# Altium footprint library 400250.PcbLib: 30 footprints (part 2 of 2)
Each footprint in its own frame and in the unit in brackets; x right, y up, seen from the top. Pads: shape width x height; smd on the part's side, far side on the other; paste and mask are expansions set on the pad; w line width, h text height; cw(c..) or ccw(c..) is an arc to the next point about the centre after c.
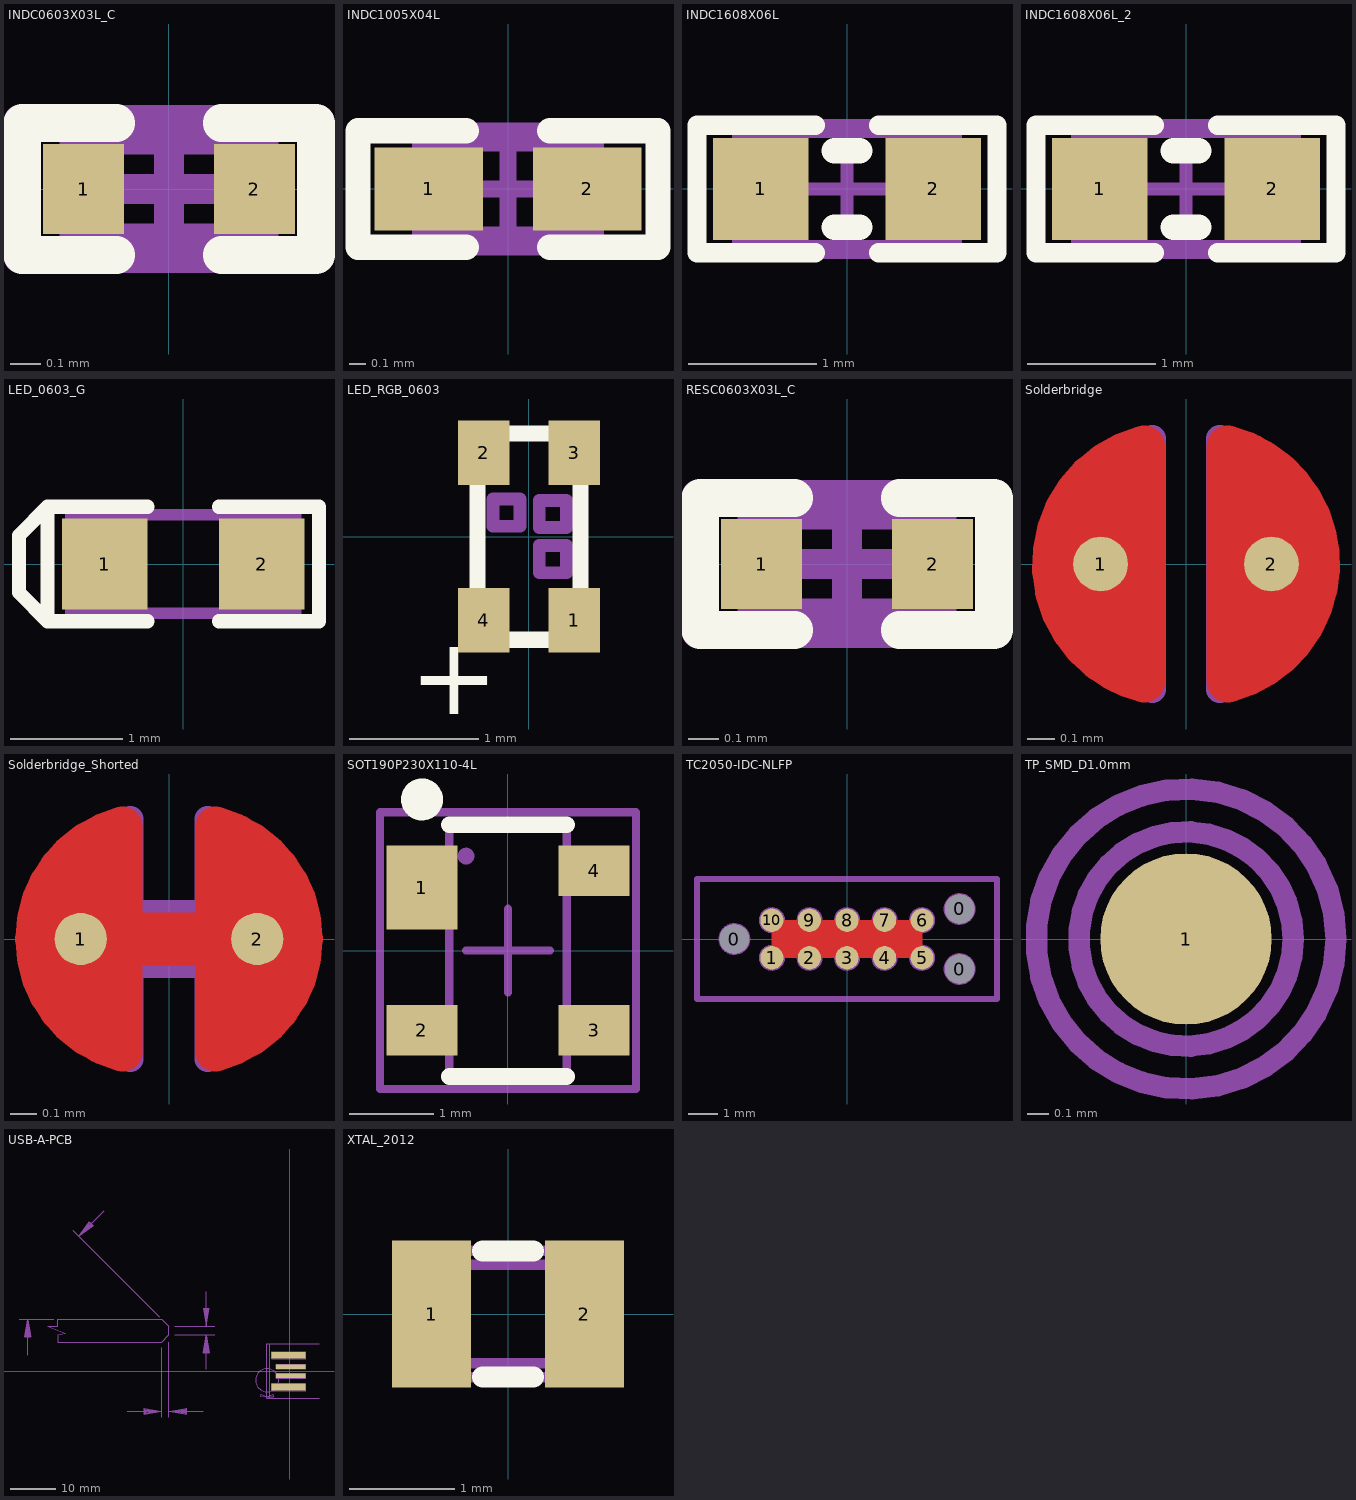
[diagram p1: the footprints below, top view; thin cyan lines are the x and y axes]

## INDC0603X03L_C [mm]
pads (2):
  rect 0.27x0.3 smd: 1(-0.285,0) 2(0.285,0)
Top Overlay:
  lines w0.125: -0.175,-0.22 -0.49,-0.22 -0.49,0.22 -0.175,0.22 ; 0.175,-0.22 0.49,-0.22 0.49,0.22 0.175,0.22
Mechanical 7:
  lines w0.1: -0.315,-0.165 -0.315,0.165 0.315,0.165 0.315,-0.165 -0.315,-0.165
  text ".Designator" at -0.457,0.152 h0.3
Mechanical 15:
  lines w0.1: -0.165,0 0.165,0 ; 0,-0.165 0,0.165 ; -0.5,-0.23 -0.5,0.23 0.5,0.23 0.5,-0.23 -0.5,-0.23
3D body "User Library-smt_inductor-0201.step": height 0.26, standoff -0.01, extent -0.31,-0.16 0.31,0.16

## INDC1005X04L [mm]
pads (2):
  rect 0.65x0.5 smd: 1(-0.475,0) 2(0.475,0)
Top Overlay:
  lines w0.152: -0.25,-0.35 -0.9,-0.35 -0.9,0.35 -0.25,0.35 ; 0.25,-0.35 0.9,-0.35 0.9,0.35 0.25,0.35
Mechanical 7:
  lines w0.1: -0.525,-0.275 0.525,-0.275 0.525,0.275 -0.525,0.275 -0.525,-0.275
  text ".Designator" at -0.229,-0.142 h0.3
Mechanical 15:
  lines w0.1: -0.275,0 0.275,0 ; 0,-0.275 0,0.275 ; -0.9,-0.35 0.9,-0.35 0.9,0.35 -0.9,0.35 -0.9,-0.35
3D body "User Library-Chip Inductor 0402.step": height 0.5, standoff 0, extent -0.5,-0.3 0.5,0.3

## INDC1608X06L [mm]
pads (2):
  rect 0.75x0.8 smd: 1(-0.675,0) 2(0.675,0)
Top Overlay:
  lines w0.152: -0.25,-0.5 -1.175,-0.5 -1.175,0.5 -0.25,0.5 ; 0.25,-0.5 1.175,-0.5 1.175,0.5 0.25,0.5
  lines w0.2: -0.1,-0.3 0.1,-0.3 ; -0.1,0.3 0.1,0.3
Mechanical 7:
  lines w0.1: -0.85,-0.45 -0.85,0.45 0.85,0.45 0.85,-0.45 -0.85,-0.45
  text ".Designator" at -0.214,-0.152 h0.3
Mechanical 15:
  lines w0.1: -0.45,0 0.45,0 ; 0,-0.45 0,0.45 ; -1.175,-0.5 1.175,-0.5 1.175,0.5 -1.175,0.5 -1.175,-0.5
3D body "User Library-Chip Inductor.step": height 0.8, standoff 0, extent -0.8,-0.475 0.8,0.475

## INDC1608X06L_2 [mm]
pads (2):
  rect 0.75x0.8 smd: 1(-0.675,0) 2(0.675,0)
Top Overlay:
  lines w0.152: -0.25,-0.5 -1.175,-0.5 -1.175,0.5 -0.25,0.5 ; 0.25,-0.5 1.175,-0.5 1.175,0.5 0.25,0.5
  lines w0.2: -0.1,-0.3 0.1,-0.3 ; -0.1,0.3 0.1,0.3
Mechanical 7:
  lines w0.1: -0.85,-0.45 -0.85,0.45 0.85,0.45 0.85,-0.45 -0.85,-0.45
  text ".Designator" at 0.255,0.178 h0.3
Mechanical 15:
  lines w0.1: -0.45,0 0.45,0 ; 0,-0.45 0,0.45 ; -1.175,-0.5 1.175,-0.5 1.175,0.5 -1.175,0.5 -1.175,-0.5
3D body "User Library-Chip Inductor.step": height 0.8, standoff 0, extent -0.8,-0.475 0.8,0.475

## LED_0603_G [mil]
pads (2):
  rect 30x32 smd: 1(-27.5,0) 2(27.5,0)
Top Overlay:
  lines w5: -12.5,-20 -47.5,-20 ; -12.5,20 -47.5,20 ; 12.5,-20 47.5,-20 47.5,20 12.5,20 ; -47.5,-20 -47.5,20 ; -47.5,-20 -57.5,-10 -57.5,10 -47.5,20
Mechanical 7:
  lines w3.94: -27.56,-17.26 -27.56,17.26 ; -23.62,-17.26 -23.62,17.26 ; 23.62,-17.26 23.62,17.26 ; 27.56,-17.26 27.56,17.26 ; -39.37,-17.26 39.37,-17.26 39.37,17.26 -39.37,17.26 -39.37,-17.26
  text ".Designator" at -16,-5 h12
3D body "User Library-led_0603_green.step": height 23.62, standoff 0, extent -31.63,-15.75 32.15,15.75

## LED_RGB_0603 [mm]
pads (4):
  rect 0.4x0.5 smd paste+0: 1(0.35,-0.65) 2(-0.35,0.65) 3(0.35,0.65) 4(-0.35,-0.65)
Top Overlay:
  lines w0.125: -0.4,-0.8 -0.4,0.8 0.4,0.8 0.4,-0.8 -0.4,-0.8
  text "+" at -0.925,-1.375 h0.6
Mechanical 7:
  lines w0.1: -0.4,-0.65 cw(c-0.4,-0.8) -0.25,-0.8 0.25,-0.8 cw(c0.4,-0.8) 0.4,-0.65 0.4,0.65 cw(c0.4,0.8) 0.25,0.8 -0.25,0.8 cw(c-0.4,0.8) -0.4,0.65 -0.4,-0.65 ; -0.28,0.08 -0.07,0.08 -0.07,0.29 -0.28,0.29 -0.28,0.08 ; 0.08,-0.28 0.08,-0.07 0.29,-0.07 0.29,-0.28 0.08,-0.28 ; 0.08,0.07 0.08,0.28 0.29,0.28 0.29,0.07 0.08,0.07
  text ".Designator" at 0.533,0.406 h0.3
3D body: height 0.27, standoff 0.18, extent 0.025,-0.325 0.325,-0.025
3D body: height 0.27, standoff 0.18, extent 0.025,0.025 0.325,0.325
3D body: height 0.27, standoff 0.18, extent -0.325,0.025 -0.025,0.325
3D body: height 0.5, standoff 0.18, extent -0.4,-0.8 0.4,0.8
3D body: height 0.18, standoff 0, extent -0.4,-0.8 0.4,0.8

## RESC0603X03L_C [mm]
pads (2):
  rect 0.27x0.3 smd: 1(-0.285,0) 2(0.285,0)
Top Overlay:
  lines w0.125: -0.175,-0.22 -0.49,-0.22 -0.49,0.22 -0.175,0.22 ; 0.175,-0.22 0.49,-0.22 0.49,0.22 0.175,0.22
Mechanical 7:
  lines w0.1: -0.315,-0.165 -0.315,0.165 0.315,0.165 0.315,-0.165 -0.315,-0.165
  text ".Designator" at -0.306,0.268 h0.3
Mechanical 15:
  lines w0.1: -0.165,0 0.165,0 ; 0,-0.165 0,0.165 ; -0.5,-0.23 -0.5,0.23 0.5,0.23 0.5,-0.23 -0.5,-0.23
3D body "User Library-res0201-1.step": height 0.23, standoff 0, extent -0.3,-0.15 0.3,0.15

## Solderbridge [mm]
pads (2):
  round 0.2 smd paste-10: 1(-0.312,0) 2(0.312,0)
Top Layer:
  region: -0.077,-0.432 -0.152,-0.505 -0.271,-0.467 -0.335,-0.424 -0.409,-0.351 -0.462,-0.292 -0.521,-0.193 -0.549,-0.099 -0.544,0.122 -0.518,0.193 -0.434,0.33 -0.351,0.411 -0.259,0.469 -0.157,0.5 -0.107,0.483 -0.077,0.43
  region: 0.077,0.432 0.152,0.505 0.271,0.467 0.335,0.424 0.409,0.351 0.462,0.292 0.521,0.193 0.549,0.099 0.544,-0.122 0.518,-0.193 0.434,-0.33 0.351,-0.411 0.259,-0.469 0.157,-0.5 0.107,-0.483 0.077,-0.43
  lines w0.152: -0.153,-0.431 cw(c-0.042,0) -0.312,-0.353 cw(c-0.042,0) -0.153,0.431 ; 0.153,-0.431 ccw(c0.042,0) 0.478,-0.088 ccw(c0.042,0) 0.383,0.286 ccw(c0.042,0) 0.153,0.431
Top Solder:
  circle w0.61: c-0.003,0 r0.279
Mechanical 7:
  lines w0.1: -0.123,-0.459 cw(c-0.042,0) -0.123,0.459 -0.123,-0.459 ; 0.123,-0.459 ccw(c0.042,0) 0.123,0.459 0.123,-0.459
  text ".Designator" at -0.686,0.203 h0.38

## Solderbridge_Shorted [mm]
pads (2):
  round 0.2 smd paste-10: 1(-0.338,0) 2(0.338,0)
Top Layer:
  region: -0.102,-0.432 -0.178,-0.505 -0.296,-0.467 -0.361,-0.424 -0.434,-0.351 -0.488,-0.292 -0.546,-0.193 -0.574,-0.099 -0.569,0.122 -0.544,0.193 -0.46,0.33 -0.376,0.411 -0.284,0.469 -0.183,0.5 -0.132,0.483 -0.102,0.43
  region: 0.102,0.432 0.178,0.505 0.296,0.467 0.361,0.424 0.434,0.351 0.488,0.292 0.546,0.193 0.574,0.099 0.569,-0.122 0.544,-0.193 0.46,-0.33 0.376,-0.411 0.284,-0.469 0.183,-0.5 0.132,-0.483 0.102,-0.43
  lines w0.152: -0.178,-0.431 cw(c-0.068,0) -0.178,0.431 ; 0.178,-0.431 ccw(c0.068,0) 0.178,0.431
  lines w0.203: -0.338,0 0.338,0
Top Solder:
  circle w0.61: c0.028,0 r0.279
  circle w0.61: c-0.028,0 r0.279
Mechanical 7:
  lines w0.1: -0.148,-0.459 cw(c-0.067,0) -0.148,0.459 -0.148,0.1 0.148,0.1 0.148,0.459 cw(c0.067,0) 0.148,-0.459 0.148,-0.1 -0.148,-0.1 -0.148,-0.459
  text ".Designator" at -0.635,0.635 h0.38

## SOT190P230X110-4L [mm]
pads (4):
  rect 0.85x1 smd: 1(-1.025,0.75)
  rect 0.85x0.6 smd: 2(-1.025,-0.95) 3(1.025,-0.95) 4(1.025,0.95)
Top Overlay:
  circle w0.25: c-1.025,1.8 r0.125
  lines w0.2: -0.7,-1.5 0.7,-1.5 ; -0.7,1.5 0.7,1.5
Mechanical 7:
  circle w0.1: c-0.5,1.125 r0.05
  lines w0.1: -0.7,-1.5 -0.7,1.5 0.7,1.5 0.7,-1.5 -0.7,-1.5
  text ".Designator" at -0.152,0.178 h0.3
Mechanical 15:
  lines w0.1: -0.5,0 0.5,0 ; 0,-0.5 0,0.5 ; -1.525,-1.65 -1.525,1.65 1.525,1.65 1.525,-1.65 -1.525,-1.65
3D body "User Library-sot143.step": height 1, standoff 0, extent -1.21,-1.46 1.21,1.46

## TC2050-IDC-NLFP [mil]
pads (13):
  round 39 hole 39 unplated mask+3: 0(-150,0) 0(150,-40) 0(150,40)
  round 31 smd paste-196.85: 1(-100,-25) 2(-50,-25) 3(0,-25) 4(50,-25) 5(100,-25) 6(100,25) 7(50,25) 8(0,25) 9(-50,25) 10(-100,25)
Top Layer:
  pour cut-out: -100,25 -100,-25 100,-25 100,25
Mechanical 7:
  circle w3.94: c-150,0 r19.26
  circle w3.94: c150,39.98 r19.26
  circle w3.94: c150,-39.98 r19.26
  circle w3.94: c100,24.99 r15.45
  circle w3.94: c100,-24.99 r15.45
  circle w3.94: c50,-24.99 r15.45
  circle w3.94: c50,24.99 r15.45
  circle w3.94: c-50,24.99 r15.45
  circle w3.94: c0,24.99 r15.45
  circle w3.94: c0,-24.99 r15.45
  circle w3.94: c-50,-24.99 r15.45
  circle w3.94: c-100,-24.99 r15.45
  circle w3.94: c-100,24.99 r15.45
Mechanical 8:
  circle w3.94: c150,-39.98 r19.26
  circle w3.94: c150,39.98 r19.26
  circle w3.94: c-150,0 r19.26
Mechanical 15:
  lines w7.87: -199.8,-79.92 199.8,-79.92 199.8,79.92 -199.8,79.92 -199.8,-79.92

## TP_SMD_D1.0mm [mm]
pads (1):
  round 0.8 smd paste-5: 1(0,0)
Mechanical 7:
  circle w0.1: c0,0 r0.5
  circle w0.1: c0,0 r0.7
  text ".Designator" at -0.9,-1.524 h0.3

## USB-A-PCB [mil]
pads (4):
  rect 296x60 smd paste-196.85: 1(-7.87,-137.8) 4(-7.87,138)
  rect 256x40 smd paste-196.85: 2(12,-39.37) 3(12,40)
Mechanical 4:
  circle w10: c-194.86,-78.49 r100
  lines w8: -2348.25,452.1 -2048.25,452.1 ; -2273.25,139.6 -2273.25,447.1 ; -1883.01,1224.42 -1193.15,534.56 -1130.65,472.06 ; -1609.35,1392.55 -1826.78,1175.12 ; -1406.48,-348.61 -1111.48,-348.61 ; -1110.75,452.1 -1048.25,389.6 -1048.25,314.6 -1110.48,252.37 ; -1110.69,-400 -1110.69,202.1 ; -1110.69,252.1 -2010.75,252.1 -2010.75,314.6 -1948.25,327.1 -2098.25,389.6 -2010.75,389.6 -2010.75,452.1 -1110.69,452.1 ; -1048.25,-400 -1048.25,252.1 ; -998.25,314.6 -648.25,314.6 ; -998.25,389.6 -648.25,389.6 ; -748.25,-347.9 -1043.25,-347.9 ; -723.25,14.6 -723.25,309.6 ; -723.25,689.6 -723.25,394.6 ; -2273.25,447.1 -2248.25,297.1 -2298.25,297.1 -2273.25,447.1 ; -1826.78,1175.12 -1738.39,1298.86 -1703.04,1263.5 -1826.78,1175.12 ; -1111.48,-348.61 -1261.48,-323.61 -1261.48,-373.61 -1111.48,-348.61 ; -1043.25,-347.9 -893.25,-372.9 -893.25,-322.9 -1043.25,-347.9 ; -723.25,309.6 -698.25,159.6 -748.25,159.6 -723.25,309.6 ; -723.25,394.6 -698.25,544.6 -748.25,544.6 -723.25,394.6 ; -2293.25,302.1 -2253.25,302.1 -2273.25,437.1 -2293.25,302.1 ; -2288.25,307.1 -2258.25,307.1 -2273.25,427.1 -2288.25,307.1 ; -2283.25,312.1 -2263.25,312.1 -2273.25,417.1 -2283.25,312.1 ; -2278.25,317.1 -2268.25,317.1 -2273.25,407.1 -2278.25,317.1 ; -1819.71,1182.18 -1738.4,1291.79 -1710.12,1263.5 -1819.71,1182.18 ; -1812.64,1189.26 -1738.4,1284.71 -1717.19,1263.5 -1812.64,1189.26 ; -1805.57,1196.33 -1738.4,1277.65 -1724.25,1263.51 -1805.57,1196.33 ; -1798.5,1203.4 -1738.39,1270.58 -1731.32,1263.51 -1798.5,1203.4 ; -1256.48,-368.61 -1256.48,-328.61 -1121.48,-348.61 -1256.48,-368.61 ; -1251.48,-363.61 -1251.48,-333.61 -1131.48,-348.61 -1251.48,-363.61 ; -1246.48,-358.61 -1246.48,-338.61 -1141.48,-348.61 -1246.48,-358.61 ; -1241.48,-353.61 -1241.48,-343.61 -1151.48,-348.61 -1241.48,-353.61 ; -1033.25,-347.9 -898.25,-367.9 -898.25,-327.9 -1033.25,-347.9 ; -1023.25,-347.9 -903.25,-362.9 -903.25,-332.9 -1023.25,-347.9 ; -1013.25,-347.9 -908.25,-357.9 -908.25,-337.9 -1013.25,-347.9 ; -1003.25,-347.9 -913.25,-352.9 -913.25,-342.9 -1003.25,-347.9 ; -743.25,164.6 -703.25,164.6 -723.25,299.6 -743.25,164.6 ; -743.25,539.6 -703.25,539.6 -723.25,404.6 -743.25,539.6 ; -738.25,169.6 -708.25,169.6 -723.25,289.6 -738.25,169.6 ; -738.25,534.6 -708.25,534.6 -723.25,414.6 -738.25,534.6 ; -733.25,174.6 -713.25,174.6 -723.25,279.6 -733.25,174.6 ; -733.25,529.6 -723.25,424.6 -713.25,529.6 -733.25,529.6 ; -728.25,179.6 -718.25,179.6 -723.25,269.6 -728.25,179.6 ; -728.25,524.6 -723.25,434.6 -718.25,524.6 -728.25,524.6
  lines w10: -250.54,-219.16 -247.33,-198.8 -196.7,-220.29 -250.54,-219.16 ; -196.86,-220.49 -141.86,-220.49 -146.86,-200.49 -196.86,-220.49
  text "SEE DETAIL A" at -150.54,-967.16 h75
  text "0.025in [0.625mm]" at -1427.23,-975.58 h90
  text "DETAIL A" at -2548.25,2.1 h150
  text "o" at -2098.15,861.35 h48
  text "45" at -1998.15,698.85 h90
  text "0.030in [0.75mm]" at -673.25,752.1 h90
Mechanical 7:
  lines w3.94: -156,-167.8 140,-167.8 140,-107.8 -156,-107.8 -156,-167.8 ; -156,108 -156,168 140,168 140,108 -156,108 ; -116,-60 140,-60 140,-19 -116,-19 -116,-60 ; -116,19.37 -116,60.37 140,60.37 140,19.37 -116,19.37
Mechanical 15:
  lines w5: -172.24,-236.22 -172.24,237 ; 255.91,-236.22 -196.85,-236.22 -196.85,237 255.91,237
  text "Card edge" at -222.44,-119.69 h62

## XTAL_2012 [mm]
pads (2):
  rect 0.75x1.4 smd: 1(-0.725,0) 2(0.725,0)
Top Overlay:
  lines w0.2: -0.24,-0.6 0.24,-0.6 ; -0.24,0.6 0.24,0.6
Mechanical 7:
  lines w0.1: -1,-0.5 cw(c-1,-0.6) -0.9,-0.6 0.9,-0.6 cw(c1,-0.6) 1,-0.5 1,0.5 cw(c1,0.6) 0.9,0.6 -0.9,0.6 cw(c-1,0.6) -1,0.5 -1,-0.5 ; -0.87,-0.37 ccw(c-0.77,-0.37) -0.77,-0.47 0.77,-0.47 ccw(c0.77,-0.37) 0.87,-0.37 0.87,0.37 ccw(c0.77,0.37) 0.77,0.47 -0.77,0.47 ccw(c-0.77,0.37) -0.87,0.37 -0.87,-0.37
  text ".Designator" at -0.254,-0.152 h0.3
3D body "User Library-ABS06.STEP": height 0.6, standoff 0, extent -1,-0.61 1,0.61
3D body: height 0.6, standoff 0.15, extent -0.825,-0.4 0.825,0.4